# Altium schematic symbol library 2020-10-06_10-46-00.SchLib: 2 symbols
Pins are listed as number, name and electrical type; pins without a type are passive.

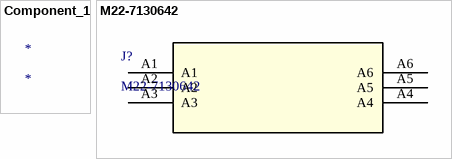
[diagram p0: symbols Component_1 to M22-7130642]

## Component_1
designator *

## M22-7130642
designator J?
No Description Available; Vendor: Harwin; SourceLibrary: Tyco_2012-01-01_M22-71; Manufacturer_Part_Number: M22-7130642; Copyright: Copyright (C) 2018 Accelerated Designs. All rights reserved; RefDes: RefDes; Type: DEV
footprint M22-7130642_TYC
pins: A1, A2, A3, A4, A5, A6